# Altium integrated library Res-SMD_V2.IntLib: 2369 symbols (part 16 of 18)
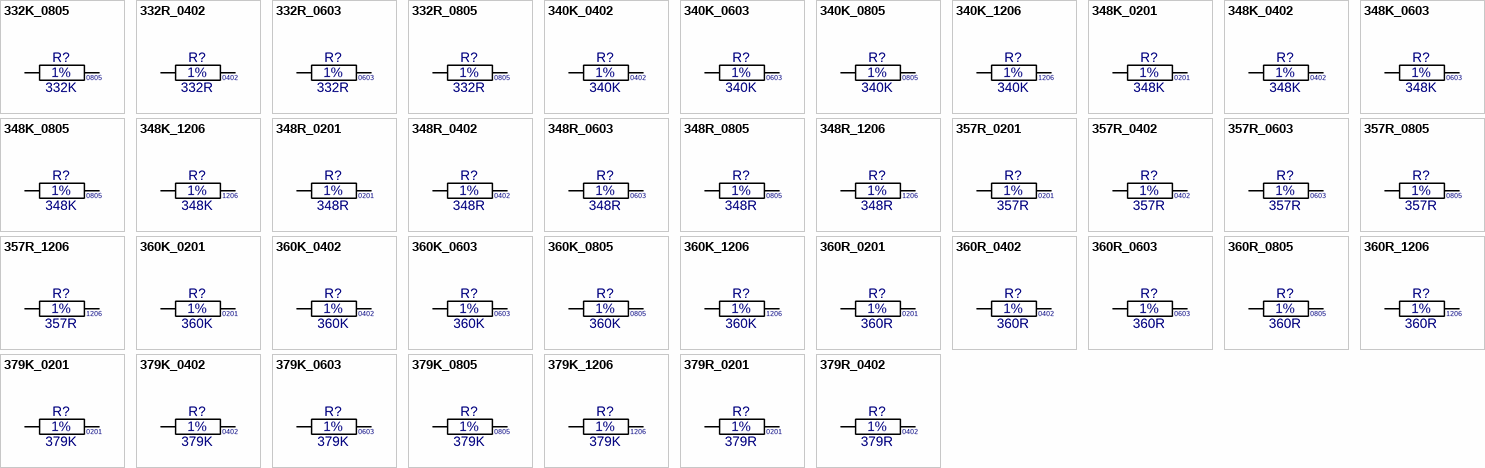
[diagram p74: symbols 332K_0805 to 379R_0402]

## 340K_0805
designator R?, comment value 340K  Tol: 1%  Text1: 0805  (hidden comment: 340K_R0805_1%)
Resistor Chip SMD; Manufacturer: Various; Part Number: 340K 0805 1%; Watt: 125mW; Package: RESC0805X65N; EDM-PN: *; Text2: *; Reutech PN: *; SAAB PN: *; DCE Part No: *
footprint RESC0805X65N (Chip Resistor, 0805, 2-Leads, Body 2.0x1.3mm, IPC Medium Density)
pins: 1, 2

## 340K_1206
designator R?, comment value 340K  Tol: 1%  Text1: 1206  (hidden comment: 340K_R1206_1%)
Resistor Chip SMD; Manufacturer: Various; Part Number: 340K 1206 1%; Watt: 250mW; Package: RESC1206X71N; EDM-PN: *; Text2: *; Reutech PN: *; SAAB PN: *; DCE Part No: *
footprint RESC1206X71N (Chip Resistor, 1206, 2-Leads, Body 3.2x1.6mm, IPC Medium Density)
pins: 1, 2

## 348K_0201
designator R?, comment value 348K  Tol: 1%  Text1: 0201  (hidden comment: 348K_R0201_1%)
Resistor Chip SMD; Manufacturer: Various; Part Number: 348K 0201 1%; Watt: 31mW; Package: RESC0201X33N; EDM-PN: *; Text2: *; Reutech PN: *; SAAB PN: *; DCE Part No: *
footprint RESC0201X33N (Chip Resistor, 0201, 2-Leads, Body 0.6x0.3mm, IPC Medium Density)
pins: 1, 2

## 348K_0402
designator R?, comment value 348K  Tol: 1%  Text1: 0402  (hidden comment: 348K_R0402_1%)
Resistor Chip SMD; Manufacturer: Various; Part Number: 348K 0402 1%; Watt: 63mW; Package: RESC0402X40N; EDM-PN: *; Text2: *; Reutech PN: *; SAAB PN: *; DCE Part No: *
footprint RESC0402X40N (Chip Resistor, 0402, 2-Leads, Body 1.1x0.5mm, IPC Medium Density)
pins: 1, 2

## 348K_0603
designator R?, comment value 348K  Tol: 1%  Text1: 0603  (hidden comment: 348K_R0603_1%)
Resistor Chip SMD; Manufacturer: Various; Part Number: 348K 0603 1%; Watt: 100mW; Package: RESC0603X60N; EDM-PN: *; Text2: *; Reutech PN: *; SAAB PN: *; DCE Part No: *
footprint RESC0603X60N (Chip Resistor, 0603, 2-Leads, Body 1.6x0.8mm, IPC Medium Density)
pins: 1, 2

## 348K_0805
designator R?, comment value 348K  Tol: 1%  Text1: 0805  (hidden comment: 348K_R0805_1%)
Resistor Chip SMD; Manufacturer: Various; Part Number: 348K 0805 1%; Watt: 125mW; Package: RESC0805X65N; EDM-PN: *; Text2: *; Reutech PN: *; SAAB PN: *; DCE Part No: *
footprint RESC0805X65N (Chip Resistor, 0805, 2-Leads, Body 2.0x1.3mm, IPC Medium Density)
pins: 1, 2

## 348K_1206
designator R?, comment value 348K  Tol: 1%  Text1: 1206  (hidden comment: 348K_R1206_1%)
Resistor Chip SMD; Manufacturer: Various; Part Number: 348K 1206 1%; Watt: 250mW; Package: RESC1206X71N; EDM-PN: *; Text2: *; Reutech PN: *; SAAB PN: *; DCE Part No: *
footprint RESC1206X71N (Chip Resistor, 1206, 2-Leads, Body 3.2x1.6mm, IPC Medium Density)
pins: 1, 2

## 348R_0201
designator R?, comment value 348R  Tol: 1%  Text1: 0201  (hidden comment: 348R_R0201_1%)
Resistor Chip SMD; Manufacturer: Various; Part Number: 348R 0201 1%; Watt: 31mW; Package: RESC0201X33N; EDM-PN: *; Text2: *; Reutech PN: *; SAAB PN: *; DCE Part No: *
footprint RESC0201X33N (Chip Resistor, 0201, 2-Leads, Body 0.6x0.3mm, IPC Medium Density)
pins: 1, 2

## 348R_0402
designator R?, comment value 348R  Tol: 1%  Text1: 0402  (hidden comment: 348R_R0402_1%)
Resistor Chip SMD; Manufacturer: Various; Part Number: 348R 0402 1%; Watt: 63mW; Package: RESC0402X40N; EDM-PN: *; Text2: *; Reutech PN: *; SAAB PN: *; DCE Part No: *
footprint RESC0402X40N (Chip Resistor, 0402, 2-Leads, Body 1.1x0.5mm, IPC Medium Density)
pins: 1, 2

## 348R_0603
designator R?, comment value 348R  Tol: 1%  Text1: 0603  (hidden comment: 348R_R0603_1%)
Resistor Chip SMD; Manufacturer: Various; Part Number: 348R 0603 1%; Watt: 100mW; Package: RESC0603X60N; EDM-PN: *; Text2: *; Reutech PN: *; SAAB PN: *; DCE Part No: *
footprint RESC0603X60N (Chip Resistor, 0603, 2-Leads, Body 1.6x0.8mm, IPC Medium Density)
pins: 1, 2

## 348R_0805
designator R?, comment value 348R  Tol: 1%  Text1: 0805  (hidden comment: 348R_R0805_1%)
Resistor Chip SMD; Manufacturer: Various; Part Number: 348R 0805 1%; Watt: 125mW; Package: RESC0805X65N; EDM-PN: *; Text2: *; Reutech PN: *; SAAB PN: *; DCE Part No: *
footprint RESC0805X65N (Chip Resistor, 0805, 2-Leads, Body 2.0x1.3mm, IPC Medium Density)
pins: 1, 2

## 348R_1206
designator R?, comment value 348R  Tol: 1%  Text1: 1206  (hidden comment: 348R_R1206_1%)
Resistor Chip SMD; Manufacturer: Various; Part Number: 348R 1206 1%; Watt: 250mW; Package: RESC1206X71N; EDM-PN: *; Text2: *; Reutech PN: *; SAAB PN: *; DCE Part No: *
footprint RESC1206X71N (Chip Resistor, 1206, 2-Leads, Body 3.2x1.6mm, IPC Medium Density)
pins: 1, 2

## 357R_0201
designator R?, comment value 357R  Tol: 1%  Text1: 0201  (hidden comment: 357R_R0201_1%)
Resistor Chip SMD; Manufacturer: Various; Part Number: 357R 0201 1%; Watt: 31mW; Package: RESC0201X33N; EDM-PN: *; Text2: *; Reutech PN: *; SAAB PN: *; DCE Part No: *
footprint RESC0201X33N (Chip Resistor, 0201, 2-Leads, Body 0.6x0.3mm, IPC Medium Density)
pins: 1, 2

## 357R_0402
designator R?, comment value 357R  Tol: 1%  Text1: 0402  (hidden comment: 357R_R0402_1%)
Resistor Chip SMD; Manufacturer: Various; Part Number: 357R 0402 1%; Watt: 63mW; Package: RESC0402X40N; EDM-PN: *; Text2: *; Reutech PN: *; SAAB PN: *; DCE Part No: *
footprint RESC0402X40N (Chip Resistor, 0402, 2-Leads, Body 1.1x0.5mm, IPC Medium Density)
pins: 1, 2

## 357R_0603
designator R?, comment value 357R  Tol: 1%  Text1: 0603  (hidden comment: 357R_R0603_1%)
Resistor Chip SMD; Manufacturer: Various; Part Number: 357R 0603 1%; Watt: 100mW; Package: RESC0603X60N; EDM-PN: *; Text2: *; Reutech PN: *; SAAB PN: *; DCE Part No: *
footprint RESC0603X60N (Chip Resistor, 0603, 2-Leads, Body 1.6x0.8mm, IPC Medium Density)
pins: 1, 2

## 357R_0805
designator R?, comment value 357R  Tol: 1%  Text1: 0805  (hidden comment: 357R_R0805_1%)
Resistor Chip SMD; Manufacturer: Various; Part Number: 357R 0805 1%; Watt: 125mW; Package: RESC0805X65N; EDM-PN: *; Text2: *; Reutech PN: *; SAAB PN: *; DCE Part No: *
footprint RESC0805X65N (Chip Resistor, 0805, 2-Leads, Body 2.0x1.3mm, IPC Medium Density)
pins: 1, 2

## 357R_1206
designator R?, comment value 357R  Tol: 1%  Text1: 1206  (hidden comment: 357R_R1206_1%)
Resistor Chip SMD; Manufacturer: Various; Part Number: 357R 1206 1%; Watt: 250mW; Package: RESC1206X71N; EDM-PN: *; Text2: *; Reutech PN: *; SAAB PN: *; DCE Part No: *
footprint RESC1206X71N (Chip Resistor, 1206, 2-Leads, Body 3.2x1.6mm, IPC Medium Density)
pins: 1, 2

## 360K_0201
designator R?, comment value 360K  Tol: 1%  Text1: 0201  (hidden comment: 360K_R0201_1%)
Resistor Chip SMD; Manufacturer: Various; Part Number: 360K 0201 1%; Watt: 31mW; Package: RESC0201X33N; EDM-PN: *; Text2: *; Reutech PN: *; SAAB PN: *; DCE Part No: *
footprint RESC0201X33N (Chip Resistor, 0201, 2-Leads, Body 0.6x0.3mm, IPC Medium Density)
pins: 1, 2

## 360K_0402
designator R?, comment value 360K  Tol: 1%  Text1: 0402  (hidden comment: 360K_R0402_1%)
Resistor Chip SMD; Manufacturer: Various; Part Number: 360K 0402 1%; Watt: 63mW; Package: RESC0402X40N; EDM-PN: *; Text2: *; Reutech PN: *; SAAB PN: *; DCE Part No: *
footprint RESC0402X40N (Chip Resistor, 0402, 2-Leads, Body 1.1x0.5mm, IPC Medium Density)
pins: 1, 2

## 360K_0603
designator R?, comment value 360K  Tol: 1%  Text1: 0603  (hidden comment: 360K_R0603_1%)
Resistor Chip SMD; Manufacturer: Various; Part Number: 360K 0603 1%; Watt: 100mW; Package: RESC0603X60N; EDM-PN: *; Text2: *; Reutech PN: *; SAAB PN: *; DCE Part No: *
footprint RESC0603X60N (Chip Resistor, 0603, 2-Leads, Body 1.6x0.8mm, IPC Medium Density)
pins: 1, 2

## 360K_0805
designator R?, comment value 360K  Tol: 1%  Text1: 0805  (hidden comment: 360K_R0805_1%)
Resistor Chip SMD; Manufacturer: Various; Part Number: 360K 0805 1%; Watt: 125mW; Package: RESC0805X65N; EDM-PN: *; Text2: *; Reutech PN: *; SAAB PN: *; DCE Part No: *
footprint RESC0805X65N (Chip Resistor, 0805, 2-Leads, Body 2.0x1.3mm, IPC Medium Density)
pins: 1, 2

## 360K_1206
designator R?, comment value 360K  Tol: 1%  Text1: 1206  (hidden comment: 360K_R1206_1%)
Resistor Chip SMD; Manufacturer: Various; Part Number: 360K 1206 1%; Watt: 250mW; Package: RESC1206X71N; EDM-PN: *; Text2: *; Reutech PN: *; SAAB PN: *; DCE Part No: *
footprint RESC1206X71N (Chip Resistor, 1206, 2-Leads, Body 3.2x1.6mm, IPC Medium Density)
pins: 1, 2

## 360R_0201
designator R?, comment value 360R  Tol: 1%  Text1: 0201  (hidden comment: 360R_R0201_1%)
Resistor Chip SMD; Manufacturer: Various; Part Number: 360R 0201 1%; Watt: 31mW; Package: RESC0201X33N; EDM-PN: *; Text2: *; Reutech PN: *; SAAB PN: *; DCE Part No: *
footprint RESC0201X33N (Chip Resistor, 0201, 2-Leads, Body 0.6x0.3mm, IPC Medium Density)
pins: 1, 2

## 360R_0402
designator R?, comment value 360R  Tol: 1%  Text1: 0402  (hidden comment: 360R_R0402_1%)
Resistor Chip SMD; Manufacturer: Various; Part Number: 360R 0402 1%; Watt: 63mW; Package: RESC0402X40N; EDM-PN: *; Text2: *; Reutech PN: *; SAAB PN: *; DCE Part No: *
footprint RESC0402X40N (Chip Resistor, 0402, 2-Leads, Body 1.1x0.5mm, IPC Medium Density)
pins: 1, 2

## 360R_0603
designator R?, comment value 360R  Tol: 1%  Text1: 0603  (hidden comment: 360R_R0603_1%)
Resistor Chip SMD; Manufacturer: Various; Part Number: 360R 0603 1%; Watt: 100mW; Package: RESC0603X60N; EDM-PN: *; Text2: *; Reutech PN: 5905-93-3600; SAAB PN: *; DCE Part No: *
footprint RESC0603X60N (Chip Resistor, 0603, 2-Leads, Body 1.6x0.8mm, IPC Medium Density)
pins: 1, 2

## 360R_0805
designator R?, comment value 360R  Tol: 1%  Text1: 0805  (hidden comment: 360R_R0805_1%)
Resistor Chip SMD; Manufacturer: Various; Part Number: 360R 0805 1%; Watt: 125mW; EDM-PN: RES52; Package: RESC0805X65N; Text2: *; Reutech PN: *; SAAB PN: *; DCE Part No: *
footprint RESC0805X65N (Chip Resistor, 0805, 2-Leads, Body 2.0x1.3mm, IPC Medium Density)
pins: 1, 2

## 360R_1206
designator R?, comment value 360R  Tol: 1%  Text1: 1206  (hidden comment: 360R_R1206_1%)
Resistor Chip SMD; Manufacturer: Various; Part Number: 360R 1206 1%; Watt: 250mW; Package: RESC1206X71N; EDM-PN: *; Text2: *; Reutech PN: *; SAAB PN: *; DCE Part No: *
footprint RESC1206X71N (Chip Resistor, 1206, 2-Leads, Body 3.2x1.6mm, IPC Medium Density)
pins: 1, 2

## 379K_0201
designator R?, comment value 379K  Tol: 1%  Text1: 0201  (hidden comment: 379K_R0201_1%)
Resistor Chip SMD; Manufacturer: Various; Part Number: 379K 0201 1%; Watt: 31mW; Package: RESC0201X33N; EDM-PN: *; Text2: *; Reutech PN: *; SAAB PN: *; DCE Part No: *
footprint RESC0201X33N (Chip Resistor, 0201, 2-Leads, Body 0.6x0.3mm, IPC Medium Density)
pins: 1, 2

## 379K_0402
designator R?, comment value 379K  Tol: 1%  Text1: 0402  (hidden comment: 379K_R0402_1%)
Resistor Chip SMD; Manufacturer: Various; Part Number: 379K 0402 1%; Watt: 63mW; Package: RESC0402X40N; EDM-PN: *; Text2: *; Reutech PN: *; SAAB PN: *; DCE Part No: *
footprint RESC0402X40N (Chip Resistor, 0402, 2-Leads, Body 1.1x0.5mm, IPC Medium Density)
pins: 1, 2

## 379K_0603
designator R?, comment value 379K  Tol: 1%  Text1: 0603  (hidden comment: 379K_R0603_1%)
Resistor Chip SMD; Manufacturer: Various; Part Number: 379K 0603 1%; Watt: 100mW; Package: RESC0603X60N; EDM-PN: *; Text2: *; Reutech PN: 5905-93-3791; SAAB PN: *; DCE Part No: *
footprint RESC0603X60N (Chip Resistor, 0603, 2-Leads, Body 1.6x0.8mm, IPC Medium Density)
pins: 1, 2

## 379K_0805
designator R?, comment value 379K  Tol: 1%  Text1: 0805  (hidden comment: 379K_R0805_1%)
Resistor Chip SMD; Manufacturer: Various; Part Number: 379K 0805 1%; Watt: 125mW; Package: RESC0805X65N; EDM-PN: *; Text2: *; Reutech PN: *; SAAB PN: *; DCE Part No: *
footprint RESC0805X65N (Chip Resistor, 0805, 2-Leads, Body 2.0x1.3mm, IPC Medium Density)
pins: 1, 2

## 379K_1206
designator R?, comment value 379K  Tol: 1%  Text1: 1206  (hidden comment: 379K_R1206_1%)
Resistor Chip SMD; Manufacturer: Various; Part Number: 379K 1206 1%; Watt: 250mW; Package: RESC1206X71N; EDM-PN: *; Text2: *; Reutech PN: *; SAAB PN: *; DCE Part No: *
footprint RESC1206X71N (Chip Resistor, 1206, 2-Leads, Body 3.2x1.6mm, IPC Medium Density)
pins: 1, 2

## 379R_0201
designator R?, comment value 379R  Tol: 1%  Text1: 0201  (hidden comment: 379R_R0201_1%)
Resistor Chip SMD; Manufacturer: Various; Part Number: 379R 0201 1%; Watt: 31mW; Package: RESC0201X33N; EDM-PN: *; Text2: *; Reutech PN: *; SAAB PN: *; DCE Part No: *
footprint RESC0201X33N (Chip Resistor, 0201, 2-Leads, Body 0.6x0.3mm, IPC Medium Density)
pins: 1, 2

## 379R_0402
designator R?, comment value 379R  Tol: 1%  Text1: 0402  (hidden comment: 379R_R0402_1%)
Resistor Chip SMD; Manufacturer: Various; Part Number: 379R 0402 1%; Watt: 63mW; Package: RESC0402X40N; EDM-PN: *; Text2: *; Reutech PN: *; SAAB PN: *; DCE Part No: *
footprint RESC0402X40N (Chip Resistor, 0402, 2-Leads, Body 1.1x0.5mm, IPC Medium Density)
pins: 1, 2

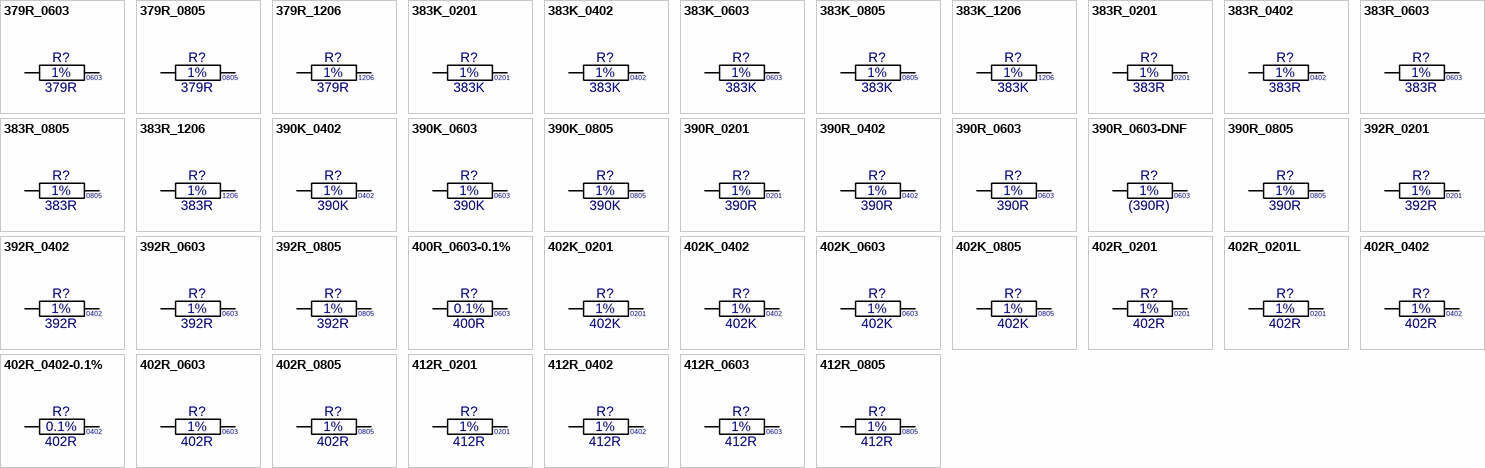
[diagram p51: symbols 379R_0603 to 412R_0805]

## 379R_0603
designator R?, comment value 379R  Tol: 1%  Text1: 0603  (hidden comment: 379R_R0603_1%)
Resistor Chip SMD; Manufacturer: Various; Part Number: 379R 0603 1%; Watt: 100mW; Package: RESC0603X60N; EDM-PN: *; Text2: *; Reutech PN: 5905-93-3790; SAAB PN: *; DCE Part No: *
footprint RESC0603X60N (Chip Resistor, 0603, 2-Leads, Body 1.6x0.8mm, IPC Medium Density)
pins: 1, 2

## 379R_0805
designator R?, comment value 379R  Tol: 1%  Text1: 0805  (hidden comment: 379R_R0805_1%)
Resistor Chip SMD; Manufacturer: Various; Part Number: 379R 0805 1%; Watt: 125mW; Package: RESC0805X65N; EDM-PN: *; Text2: *; Reutech PN: *; SAAB PN: *; DCE Part No: *
footprint RESC0805X65N (Chip Resistor, 0805, 2-Leads, Body 2.0x1.3mm, IPC Medium Density)
pins: 1, 2

## 379R_1206
designator R?, comment value 379R  Tol: 1%  Text1: 1206  (hidden comment: 379R_R1206_1%)
Resistor Chip SMD; Manufacturer: Various; Part Number: 379R 1206 1%; Watt: 250mW; Package: RESC1206X71N; EDM-PN: *; Text2: *; Reutech PN: *; SAAB PN: *; DCE Part No: *
footprint RESC1206X71N (Chip Resistor, 1206, 2-Leads, Body 3.2x1.6mm, IPC Medium Density)
pins: 1, 2

## 383K_0201
designator R?, comment value 383K  Tol: 1%  Text1: 0201  (hidden comment: 383K_R0201_1%)
Resistor Chip SMD; Manufacturer: Various; Part Number: 383K 0201 1%; Watt: 31mW; Package: RESC0201X33N; EDM-PN: *; Text2: *; Reutech PN: *; SAAB PN: *; DCE Part No: *
footprint RESC0201X33N (Chip Resistor, 0201, 2-Leads, Body 0.6x0.3mm, IPC Medium Density)
pins: 1, 2

## 383K_0402
designator R?, comment value 383K  Tol: 1%  Text1: 0402  (hidden comment: 383K_R0402_1%)
Resistor Chip SMD; Manufacturer: Various; Part Number: 383K 0402 1%; Watt: 63mW; Package: RESC0402X40N; EDM-PN: *; Text2: *; Reutech PN: *; SAAB PN: *; DCE Part No: *
footprint RESC0402X40N (Chip Resistor, 0402, 2-Leads, Body 1.1x0.5mm, IPC Medium Density)
pins: 1, 2

## 383K_0603
designator R?, comment value 383K  Tol: 1%  Text1: 0603  (hidden comment: 383K_R0603_1%)
Resistor Chip SMD; Manufacturer: Various; Part Number: 383K 0603 1%; Watt: 100mW; Package: RESC0603X60N; EDM-PN: *; Text2: *; Reutech PN: 5905-93-3831; SAAB PN: *; DCE Part No: *
footprint RESC0603X60N (Chip Resistor, 0603, 2-Leads, Body 1.6x0.8mm, IPC Medium Density)
pins: 1, 2

## 383K_0805
designator R?, comment value 383K  Tol: 1%  Text1: 0805  (hidden comment: 383K_R0805_1%)
Resistor Chip SMD; Manufacturer: Various; Part Number: 383K 0805 1%; Watt: 125mW; Package: RESC0805X65N; EDM-PN: *; Text2: *; Reutech PN: *; SAAB PN: *; DCE Part No: *
footprint RESC0805X65N (Chip Resistor, 0805, 2-Leads, Body 2.0x1.3mm, IPC Medium Density)
pins: 1, 2

## 383K_1206
designator R?, comment value 383K  Tol: 1%  Text1: 1206  (hidden comment: 383K_R1206_1%)
Resistor Chip SMD; Manufacturer: Various; Part Number: 383K 1206 1%; Watt: 250mW; Package: RESC1206X71N; EDM-PN: *; Text2: *; Reutech PN: *; SAAB PN: *; DCE Part No: *
footprint RESC1206X71N (Chip Resistor, 1206, 2-Leads, Body 3.2x1.6mm, IPC Medium Density)
pins: 1, 2

## 383R_0201
designator R?, comment value 383R  Tol: 1%  Text1: 0201  (hidden comment: 383R_R0201_1%)
Resistor Chip SMD; Manufacturer: Various; Part Number: 383R 0201 1%; Watt: 31mW; Package: RESC0201X33N; EDM-PN: *; Text2: *; Reutech PN: *; SAAB PN: *; DCE Part No: *
footprint RESC0201X33N (Chip Resistor, 0201, 2-Leads, Body 0.6x0.3mm, IPC Medium Density)
pins: 1, 2

## 383R_0402
designator R?, comment value 383R  Tol: 1%  Text1: 0402  (hidden comment: 383R_R0402_1%)
Resistor Chip SMD; Manufacturer: Various; Part Number: 383R 0402 1%; Watt: 63mW; Package: RESC0402X40N; EDM-PN: *; Text2: *; Reutech PN: *; SAAB PN: *; DCE Part No: *
footprint RESC0402X40N (Chip Resistor, 0402, 2-Leads, Body 1.1x0.5mm, IPC Medium Density)
pins: 1, 2

## 383R_0603
designator R?, comment value 383R  Tol: 1%  Text1: 0603  (hidden comment: 383R_R0603_1%)
Resistor Chip SMD; Manufacturer: Various; Part Number: 383R 0603 1%; Watt: 100mW; Package: RESC0603X60N; EDM-PN: *; Text2: *; Reutech PN: 5905-93-3830; SAAB PN: *; DCE Part No: *
footprint RESC0603X60N (Chip Resistor, 0603, 2-Leads, Body 1.6x0.8mm, IPC Medium Density)
pins: 1, 2

## 383R_0805
designator R?, comment value 383R  Tol: 1%  Text1: 0805  (hidden comment: 383R_R0805_1%)
Resistor Chip SMD; Manufacturer: Various; Part Number: 383R 0805 1%; Watt: 125mW; Package: RESC0805X65N; EDM-PN: *; Text2: *; Reutech PN: *; SAAB PN: *; DCE Part No: *
footprint RESC0805X65N (Chip Resistor, 0805, 2-Leads, Body 2.0x1.3mm, IPC Medium Density)
pins: 1, 2

## 383R_1206
designator R?, comment value 383R  Tol: 1%  Text1: 1206  (hidden comment: 383R_R1206_1%)
Resistor Chip SMD; Manufacturer: Various; Part Number: 383R 1206 1%; Watt: 250mW; Package: RESC1206X71N; EDM-PN: *; Text2: *; Reutech PN: *; SAAB PN: *; DCE Part No: *
footprint RESC1206X71N (Chip Resistor, 1206, 2-Leads, Body 3.2x1.6mm, IPC Medium Density)
pins: 1, 2

## 390K_0402
designator R?, comment value 390K  Tol: 1%  Text1: 0402  (hidden comment: 390K_R0402_1%)
Resistor Chip SMD; Manufacturer: Various; Part Number: 390K 0402 1%; Watt: 63mW; Package: RESC0402X40N; EDM-PN: *; Text2: *; Reutech PN: *; SAAB PN: *; DCE Part No: *
footprint RESC0402X40N (Chip Resistor, 0402, 2-Leads, Body 1.1x0.5mm, IPC Medium Density)
pins: 1, 2

## 390K_0603
designator R?, comment value 390K  Tol: 1%  Text1: 0603  (hidden comment: 390K_R0603_1%)
Resistor Chip SMD; Manufacturer: Various; Part Number: 390K 0603 1%; Watt: 100mW; Package: RESC0603X60N; EDM-PN: *; Text2: *; Reutech PN: *; SAAB PN: *; DCE Part No: *
footprint RESC0603X60N (Chip Resistor, 0603, 2-Leads, Body 1.6x0.8mm, IPC Medium Density)
pins: 1, 2

## 390K_0805
designator R?, comment value 390K  Tol: 1%  Text1: 0805  (hidden comment: 390K_R0805_1%)
Resistor Chip SMD; Manufacturer: Various; Part Number: 390K 0805 1%; Watt: 125mW; Package: RESC0805X65N; EDM-PN: *; Text2: *; Reutech PN: *; SAAB PN: *; DCE Part No: *
footprint RESC0805X65N (Chip Resistor, 0805, 2-Leads, Body 2.0x1.3mm, IPC Medium Density)
pins: 1, 2

## 390R_0201
designator R?, comment value 390R  Tol: 1%  Text1: 0201  (hidden comment: 390R_R0201_1%)
Resistor Chip SMD; Manufacturer: Various; Part Number: 390R 0201 1%; Watt: 31mW; Package: RESC0201X33N; EDM-PN: *; Text2: *; Reutech PN: *; SAAB PN: *; DCE Part No: *
footprint RESC0201X33N (Chip Resistor, 0201, 2-Leads, Body 0.6x0.3mm, IPC Medium Density)
pins: 1, 2

## 390R_0402
designator R?, comment value 390R  Tol: 1%  Text1: 0402  (hidden comment: 390R_R0402_1%)
Resistor Chip SMD; Manufacturer: Various; Part Number: 390R 0402 1%; Watt: 63mW; Package: RESC0402X40N; EDM-PN: *; Text2: *; Reutech PN: *; SAAB PN: *; DCE Part No: *
footprint RESC0402X40N (Chip Resistor, 0402, 2-Leads, Body 1.1x0.5mm, IPC Medium Density)
pins: 1, 2

## 390R_0603
designator R?, comment value 390R  Tol: 1%  Text1: 0603  (hidden comment: 390R_R0603_1%)
Resistor Chip SMD; Manufacturer: Various; Part Number: 390R 0603 1%; Watt: 100mW; Package: RESC0603X60N; EDM-PN: *; Text2: *; Reutech PN: 5905-93-3900; SAAB PN: *; DCE Part No: *
footprint RESC0603X60N (Chip Resistor, 0603, 2-Leads, Body 1.6x0.8mm, IPC Medium Density)
pins: 1, 2

## 390R_0603-DNF
designator R?, comment value (390R)  Tol: 1%  Text1: 0603  (hidden comment: 390R_R0603_1%)
Resistor Chip SMD - Do not Fit; Manufacturer: Various; Part Number: DNF - 390R 0603 1%; Watt: 100mW; Package: RESC0603X60N; EDM-PN: *; Text2: *; Reutech PN: 5905-93-3900; SAAB PN: *; DCE Part No: *
footprint RESC0603X60N (Chip Resistor, 0603, 2-Leads, Body 1.6x0.8mm, IPC Medium Density)
pins: 1, 2

## 390R_0805
designator R?, comment value 390R  Tol: 1%  Text1: 0805  (hidden comment: 390R_R0805_1%)
Resistor Chip SMD; Manufacturer: Various; Part Number: 390R 0805 1%; Watt: 125mW; Package: RESC0805X65N; EDM-PN: *; Text2: *; Reutech PN: *; SAAB PN: *; DCE Part No: *
footprint RESC0805X65N (Chip Resistor, 0805, 2-Leads, Body 2.0x1.3mm, IPC Medium Density)
pins: 1, 2

## 392R_0201
designator R?, comment value 392R  Tol: 1%  Text1: 0201  (hidden comment: 392R_R0201_1%)
Resistor Chip SMD; Manufacturer: Various; Part Number: 392R 0201 1%; Watt: 31mW; Package: RESC0201X33N; EDM-PN: *; Text2: *; Reutech PN: *; SAAB PN: *; DCE Part No: *
footprint RESC0201X33N (Chip Resistor, 0201, 2-Leads, Body 0.6x0.3mm, IPC Medium Density)
pins: 1, 2

## 392R_0402
designator R?, comment value 392R  Tol: 1%  Text1: 0402  (hidden comment: 392R_R0402_1%)
Resistor Chip SMD; Manufacturer: Various; Part Number: 392R 0402 1%; Watt: 63mW; Package: RESC0402X40N; EDM-PN: *; Text2: *; Reutech PN: *; SAAB PN: *; DCE Part No: *
footprint RESC0402X40N (Chip Resistor, 0402, 2-Leads, Body 1.1x0.5mm, IPC Medium Density)
pins: 1, 2

## 392R_0603
designator R?, comment value 392R  Tol: 1%  Text1: 0603  (hidden comment: 392R_R0603_1%)
Resistor Chip SMD; Manufacturer: Various; Part Number: 392R 0603 1%; Watt: 100mW; Package: RESC0603X60N; EDM-PN: *; Text2: *; Reutech PN: *; SAAB PN: *; DCE Part No: *
footprint RESC0603X60N (Chip Resistor, 0603, 2-Leads, Body 1.6x0.8mm, IPC Medium Density)
pins: 1, 2

## 392R_0805
designator R?, comment value 392R  Tol: 1%  Text1: 0805  (hidden comment: 392R_R0805_1%)
Resistor Chip SMD; Manufacturer: Various; Part Number: 392R 0805 1%; Watt: 125mW; Package: RESC0805X65N; EDM-PN: *; Text2: *; Reutech PN: *; SAAB PN: *; DCE Part No: *
footprint RESC0805X65N (Chip Resistor, 0805, 2-Leads, Body 2.0x1.3mm, IPC Medium Density)
pins: 1, 2

## 400R_0603-0.1%
designator R?, comment value 400R  Tol: 0.1%  Text1: 0603  (hidden comment: 400R_R0603_0.1%)
Resistor Chip SMD; Manufacturer: Various; Part Number: 400R 0603 0.1%; Watt: 150mW; Package: RESC0603X60N; EDM-PN: *; Text2: *; Reutech PN: *; SAAB PN: *; DCE Part No: *
footprint RESC0603X60N (Chip Resistor, 0603, 2-Leads, Body 1.6x0.8mm, IPC Medium Density)
pins: 1, 2

## 402K_0201
designator R?, comment value 402K  Tol: 1%  Text1: 0201  (hidden comment: 402K_R0201_1%)
Resistor Chip SMD; Manufacturer: Various; Part Number: 402K 0201 1%; Watt: 31mW; Package: RESC0201X33N; EDM-PN: *; Text2: *; Reutech PN: *; SAAB PN: *; DCE Part No: *
footprint RESC0201X33N (Chip Resistor, 0201, 2-Leads, Body 0.6x0.3mm, IPC Medium Density)
pins: 1, 2

## 402K_0402
designator R?, comment value 402K  Tol: 1%  Text1: 0402  (hidden comment: 402K_R0402_1%)
Resistor Chip SMD; Manufacturer: Various; Part Number: 402K 0402 1%; Watt: 63mW; Package: RESC0402X40N; EDM-PN: *; Text2: *; Reutech PN: *; SAAB PN: *; DCE Part No: *
footprint RESC0402X40N (Chip Resistor, 0402, 2-Leads, Body 1.1x0.5mm, IPC Medium Density)
pins: 1, 2

## 402K_0603
designator R?, comment value 402K  Tol: 1%  Text1: 0603  (hidden comment: 402K_R0603_1%)
Resistor Chip SMD; Manufacturer: Various; Part Number: 402K 0603 1%; Watt: 100mW; EDM-PN: RES1511; Package: RESC0603X60N; Text2: *; Reutech PN: *; SAAB PN: *; DCE Part No: *
footprint RESC0603X60N (Chip Resistor, 0603, 2-Leads, Body 1.6x0.8mm, IPC Medium Density)
pins: 1, 2

## 402K_0805
designator R?, comment value 402K  Tol: 1%  Text1: 0805  (hidden comment: 402K_R0805_1%)
Resistor Chip SMD; Manufacturer: Various; Part Number: 402K 0805 1%; Watt: 125mW; Package: RESC0805X65N; EDM-PN: *; Text2: *; Reutech PN: *; SAAB PN: *; DCE Part No: *
footprint RESC0805X65N (Chip Resistor, 0805, 2-Leads, Body 2.0x1.3mm, IPC Medium Density)
pins: 1, 2

## 402R_0201
designator R?, comment value 402R  Tol: 1%  Text1: 0201  (hidden comment: 402R_R0201_1%)
Resistor Chip SMD; Manufacturer: Various; Part Number: 402R 0201 1%; Watt: 31mW; Package: RESC0201X33N; EDM-PN: *; Text2: *; Reutech PN: *; SAAB PN: *; DCE Part No: *
footprint RESC0201X33N (Chip Resistor, 0201, 2-Leads, Body 0.6x0.3mm, IPC Medium Density)
pins: 1, 2

## 402R_0201L
designator R?, comment value 402R  Tol: 1%  Text1: 0201  (hidden comment: 402R_R0201_1%)
Resistor Chip SMD; Manufacturer: Various; Part Number: 402R 0201 1%; Watt: 31mW; Package: RESC0201X33L; EDM-PN: *; Text2: *; Reutech PN: *; SAAB PN: *; DCE Part No: *
footprint RESC0201X33L (Chip Resistor, 0201, 2-Leads, Body 0.6x0.3mm, IPC Least Density)
pins: 1, 2

## 402R_0402
designator R?, comment value 402R  Tol: 1%  Text1: 0402  (hidden comment: 402R_R0402_1%)
Resistor Chip SMD; Manufacturer: Various; Part Number: 402R 0402 1%; Watt: 63mW; Package: RESC0402X40N; EDM-PN: *; Text2: *; Reutech PN: *; SAAB PN: *; DCE Part No: *
footprint RESC0402X40N (Chip Resistor, 0402, 2-Leads, Body 1.1x0.5mm, IPC Medium Density)
pins: 1, 2

## 402R_0402-0.1%
designator R?, comment value 402R  Tol: 0.1%  Text1: 0402  (hidden comment: 402R_R0402_0.1%)
Resistor Chip SMD; Manufacturer: Various; Part Number: 402R 0402 0.1%; Watt: 63mW; Package: RESC0402X40N; EDM-PN: *; Text2: *; Reutech PN: *; SAAB PN: *; DCE Part No: *
footprint RESC0402X40N (Chip Resistor, 0402, 2-Leads, Body 1.1x0.5mm, IPC Medium Density)
pins: 1, 2

## 402R_0603
designator R?, comment value 402R  Tol: 1%  Text1: 0603  (hidden comment: 402R_R0603_1%)
Resistor Chip SMD; Manufacturer: Various; Part Number: 402R 0603 1%; Watt: 100mW; Package: RESC0603X60N; EDM-PN: *; Text2: *; Reutech PN: *; SAAB PN: *; DCE Part No: *
footprint RESC0603X60N (Chip Resistor, 0603, 2-Leads, Body 1.6x0.8mm, IPC Medium Density)
pins: 1, 2

## 402R_0805
designator R?, comment value 402R  Tol: 1%  Text1: 0805  (hidden comment: 402R_R0805_1%)
Resistor Chip SMD; Manufacturer: Various; Part Number: 402R 0805 1%; Watt: 125mW; EDM-PN: RES177; Package: RESC0805X65N; Text2: *; Reutech PN: *; SAAB PN: *; DCE Part No: *
footprint RESC0805X65N (Chip Resistor, 0805, 2-Leads, Body 2.0x1.3mm, IPC Medium Density)
pins: 1, 2

## 412R_0201
designator R?, comment value 412R  Tol: 1%  Text1: 0201  (hidden comment: 412R_R0201_1%)
Resistor Chip SMD; Manufacturer: Various; Part Number: 412R 0201 1%; Watt: 31mW; Package: RESC0201X33N; EDM-PN: *; Text2: *; Reutech PN: *; SAAB PN: *; DCE Part No: *
footprint RESC0201X33N (Chip Resistor, 0201, 2-Leads, Body 0.6x0.3mm, IPC Medium Density)
pins: 1, 2

## 412R_0402
designator R?, comment value 412R  Tol: 1%  Text1: 0402  (hidden comment: 412R_R0402_1%)
Resistor Chip SMD; Manufacturer: Various; Part Number: 412R 0402 1%; Watt: 63mW; Package: RESC0402X40N; EDM-PN: *; Text2: *; Reutech PN: *; SAAB PN: *; DCE Part No: *
footprint RESC0402X40N (Chip Resistor, 0402, 2-Leads, Body 1.1x0.5mm, IPC Medium Density)
pins: 1, 2

## 412R_0603
designator R?, comment value 412R  Tol: 1%  Text1: 0603  (hidden comment: 412R_R0603_1%)
Resistor Chip SMD; Manufacturer: Various; Part Number: 412R 0603 1%; Watt: 100mW; Package: RESC0603X60N; EDM-PN: *; Text2: *; Reutech PN: *; SAAB PN: *; DCE Part No: *
footprint RESC0603X60N (Chip Resistor, 0603, 2-Leads, Body 1.6x0.8mm, IPC Medium Density)
pins: 1, 2

## 412R_0805
designator R?, comment value 412R  Tol: 1%  Text1: 0805  (hidden comment: 412R_R0805_1%)
Resistor Chip SMD; Manufacturer: Various; Part Number: 412R 0805 1%; Watt: 125mW; Package: RESC0805X65N; EDM-PN: *; Text2: *; Reutech PN: *; SAAB PN: *; DCE Part No: *
footprint RESC0805X65N (Chip Resistor, 0805, 2-Leads, Body 2.0x1.3mm, IPC Medium Density)
pins: 1, 2

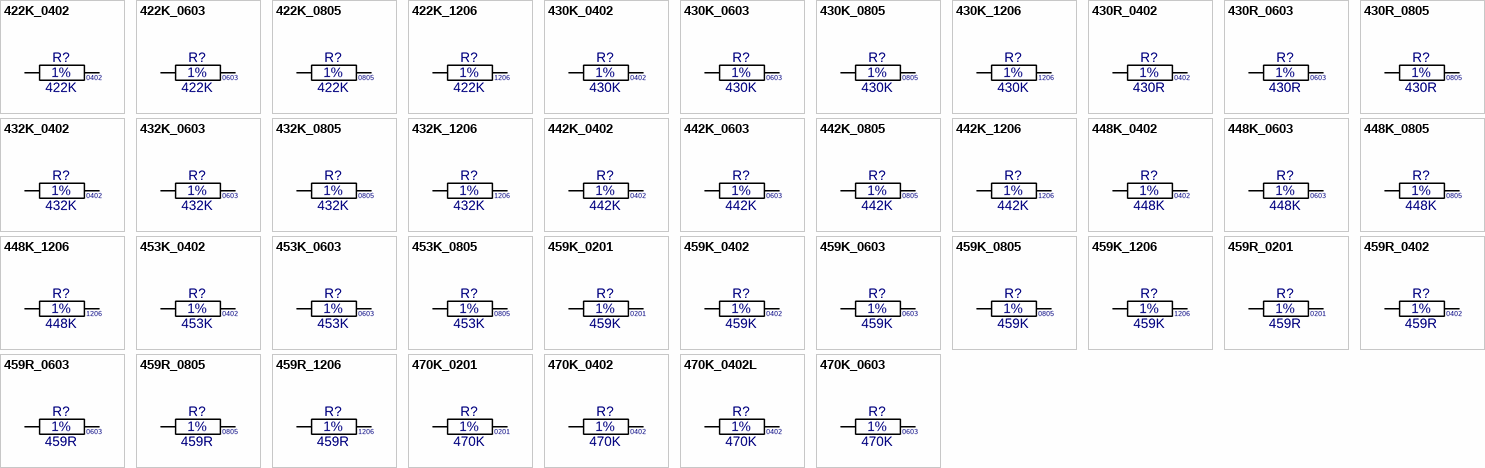
[diagram p52: symbols 422K_0402 to 470K_0603]

## 422K_0402
designator R?, comment value 422K  Tol: 1%  Text1: 0402  (hidden comment: 422K_R0402_1%)
Resistor Chip SMD; Manufacturer: Various; Part Number: 422K 0402 1%; Watt: 63mW; Package: RESC0402X40N; EDM-PN: *; Text2: *; Reutech PN: *; SAAB PN: *; DCE Part No: *
footprint RESC0402X40N (Chip Resistor, 0402, 2-Leads, Body 1.1x0.5mm, IPC Medium Density)
pins: 1, 2

## 422K_0603
designator R?, comment value 422K  Tol: 1%  Text1: 0603  (hidden comment: 422K_R0603_1%)
Resistor Chip SMD; Manufacturer: Various; Part Number: 422K 0603 1%; Watt: 100mW; Package: RESC0603X60N; EDM-PN: *; Text2: *; Reutech PN: *; SAAB PN: *; DCE Part No: *
footprint RESC0603X60N (Chip Resistor, 0603, 2-Leads, Body 1.6x0.8mm, IPC Medium Density)
pins: 1, 2

## 422K_0805
designator R?, comment value 422K  Tol: 1%  Text1: 0805  (hidden comment: 422K_R0805_1%)
Resistor Chip SMD; Manufacturer: Various; Part Number: 422K 0805 1%; Watt: 125mW; Package: RESC0805X65N; EDM-PN: *; Text2: *; Reutech PN: *; SAAB PN: *; DCE Part No: *
footprint RESC0805X65N (Chip Resistor, 0805, 2-Leads, Body 2.0x1.3mm, IPC Medium Density)
pins: 1, 2

## 422K_1206
designator R?, comment value 422K  Tol: 1%  Text1: 1206  (hidden comment: 422K_R1206_1%)
Resistor Chip SMD; Manufacturer: Various; Part Number: 422K 1206 1%; Watt: 250mW; Package: RESC1206X71N; EDM-PN: *; Text2: *; Reutech PN: *; SAAB PN: *; DCE Part No: *
footprint RESC1206X71N (Chip Resistor, 1206, 2-Leads, Body 3.2x1.6mm, IPC Medium Density)
pins: 1, 2

## 430K_0402
designator R?, comment value 430K  Tol: 1%  Text1: 0402  (hidden comment: 430K_R0402_1%)
Resistor Chip SMD; Manufacturer: Various; Part Number: 430K 0402 1%; Watt: 63mW; Package: RESC0402X40N; EDM-PN: *; Text2: *; Reutech PN: *; SAAB PN: *; DCE Part No: *
footprint RESC0402X40N (Chip Resistor, 0402, 2-Leads, Body 1.1x0.5mm, IPC Medium Density)
pins: 1, 2

## 430K_0603
designator R?, comment value 430K  Tol: 1%  Text1: 0603  (hidden comment: 430K_R0603_1%)
Resistor Chip SMD; Manufacturer: Various; Part Number: 430K 0603 1%; Watt: 100mW; Package: RESC0603X60N; EDM-PN: *; Text2: *; Reutech PN: *; SAAB PN: *; DCE Part No: *
footprint RESC0603X60N (Chip Resistor, 0603, 2-Leads, Body 1.6x0.8mm, IPC Medium Density)
pins: 1, 2

## 430K_0805
designator R?, comment value 430K  Tol: 1%  Text1: 0805  (hidden comment: 430K_R0805_1%)
Resistor Chip SMD; Manufacturer: Various; Part Number: 430K 0805 1%; Watt: 125mW; Package: RESC0805X65N; EDM-PN: *; Text2: *; Reutech PN: *; SAAB PN: *; DCE Part No: *
footprint RESC0805X65N (Chip Resistor, 0805, 2-Leads, Body 2.0x1.3mm, IPC Medium Density)
pins: 1, 2

## 430K_1206
designator R?, comment value 430K  Tol: 1%  Text1: 1206  (hidden comment: 430K_R1206_1%)
Resistor Chip SMD; Manufacturer: Various; Part Number: 430K 1206 1%; Watt: 250mW; Package: RESC1206X71N; EDM-PN: *; Text2: *; Reutech PN: *; SAAB PN: *; DCE Part No: *
footprint RESC1206X71N (Chip Resistor, 1206, 2-Leads, Body 3.2x1.6mm, IPC Medium Density)
pins: 1, 2

## 430R_0402
designator R?, comment value 430R  Tol: 1%  Text1: 0402  (hidden comment: 430R_R0402_1%)
Resistor Chip SMD; Manufacturer: Various; Part Number: 430R 0402 1%; Watt: 63mW; Package: RESC0402X40N; EDM-PN: *; Text2: *; Reutech PN: *; SAAB PN: *; DCE Part No: *
footprint RESC0402X40N (Chip Resistor, 0402, 2-Leads, Body 1.1x0.5mm, IPC Medium Density)
pins: 1, 2

## 430R_0603
designator R?, comment value 430R  Tol: 1%  Text1: 0603  (hidden comment: 430R_R0603_1%)
Resistor Chip SMD; Manufacturer: Various; Part Number: 430R 0603 1%; Watt: 100mW; Package: RESC0603X60N; EDM-PN: *; Text2: *; Reutech PN: 5905-93-4300; SAAB PN: *; DCE Part No: *
footprint RESC0603X60N (Chip Resistor, 0603, 2-Leads, Body 1.6x0.8mm, IPC Medium Density)
pins: 1, 2

## 430R_0805
designator R?, comment value 430R  Tol: 1%  Text1: 0805  (hidden comment: 430R_R0805_1%)
Resistor Chip SMD; Manufacturer: Various; Part Number: 430R 0805 1%; Watt: 125mW; Package: RESC0805X65N; EDM-PN: *; Text2: *; Reutech PN: *; SAAB PN: *; DCE Part No: *
footprint RESC0805X65N (Chip Resistor, 0805, 2-Leads, Body 2.0x1.3mm, IPC Medium Density)
pins: 1, 2

## 432K_0402
designator R?, comment value 432K  Tol: 1%  Text1: 0402  (hidden comment: 432K_R0402_1%)
Resistor Chip SMD; Manufacturer: Various; Part Number: 432K 0402 1%; Watt: 63mW; Package: RESC0402X40N; EDM-PN: *; Text2: *; Reutech PN: *; SAAB PN: *; DCE Part No: *
footprint RESC0402X40N (Chip Resistor, 0402, 2-Leads, Body 1.1x0.5mm, IPC Medium Density)
pins: 1, 2

## 432K_0603
designator R?, comment value 432K  Tol: 1%  Text1: 0603  (hidden comment: 432K_R0603_1%)
Resistor Chip SMD; Manufacturer: Various; Part Number: 432K 0603 1%; Watt: 100mW; Package: RESC0603X60N; EDM-PN: *; Text2: *; Reutech PN: *; SAAB PN: *; DCE Part No: *
footprint RESC0603X60N (Chip Resistor, 0603, 2-Leads, Body 1.6x0.8mm, IPC Medium Density)
pins: 1, 2

## 432K_0805
designator R?, comment value 432K  Tol: 1%  Text1: 0805  (hidden comment: 432K_R0805_1%)
Resistor Chip SMD; Manufacturer: Various; Part Number: 432K 0805 1%; Watt: 125mW; Package: RESC0805X65N; EDM-PN: *; Text2: *; Reutech PN: *; SAAB PN: *; DCE Part No: *
footprint RESC0805X65N (Chip Resistor, 0805, 2-Leads, Body 2.0x1.3mm, IPC Medium Density)
pins: 1, 2

## 432K_1206
designator R?, comment value 432K  Tol: 1%  Text1: 1206  (hidden comment: 432K_R1206_1%)
Resistor Chip SMD; Manufacturer: Various; Part Number: 432K 1206 1%; Watt: 250mW; Package: RESC1206X71N; EDM-PN: *; Text2: *; Reutech PN: *; SAAB PN: *; DCE Part No: *
footprint RESC1206X71N (Chip Resistor, 1206, 2-Leads, Body 3.2x1.6mm, IPC Medium Density)
pins: 1, 2

## 442K_0402
designator R?, comment value 442K  Tol: 1%  Text1: 0402  (hidden comment: 442K_R0402_1%)
Resistor Chip SMD; Manufacturer: Various; Part Number: 442K 0402 1%; Watt: 63mW; Package: RESC0402X40N; EDM-PN: *; Text2: *; Reutech PN: *; SAAB PN: *; DCE Part No: *
footprint RESC0402X40N (Chip Resistor, 0402, 2-Leads, Body 1.1x0.5mm, IPC Medium Density)
pins: 1, 2

## 442K_0603
designator R?, comment value 442K  Tol: 1%  Text1: 0603  (hidden comment: 442K_R0603_1%)
Resistor Chip SMD; Manufacturer: Various; Part Number: 442K 0603 1%; Watt: 100mW; Package: RESC0603X60N; EDM-PN: *; Text2: *; Reutech PN: *; SAAB PN: *; DCE Part No: *
footprint RESC0603X60N (Chip Resistor, 0603, 2-Leads, Body 1.6x0.8mm, IPC Medium Density)
pins: 1, 2

## 442K_0805
designator R?, comment value 442K  Tol: 1%  Text1: 0805  (hidden comment: 442K_R0805_1%)
Resistor Chip SMD; Manufacturer: Various; Part Number: 442K 0805 1%; Watt: 125mW; Package: RESC0805X65N; EDM-PN: *; Text2: *; Reutech PN: *; SAAB PN: *; DCE Part No: *
footprint RESC0805X65N (Chip Resistor, 0805, 2-Leads, Body 2.0x1.3mm, IPC Medium Density)
pins: 1, 2

## 442K_1206
designator R?, comment value 442K  Tol: 1%  Text1: 1206  (hidden comment: 442K_R1206_1%)
Resistor Chip SMD; Manufacturer: Various; Part Number: 442K 1206 1%; Watt: 250mW; Package: RESC1206X71N; EDM-PN: *; Text2: *; Reutech PN: *; SAAB PN: *; DCE Part No: *
footprint RESC1206X71N (Chip Resistor, 1206, 2-Leads, Body 3.2x1.6mm, IPC Medium Density)
pins: 1, 2

## 448K_0402
designator R?, comment value 448K  Tol: 1%  Text1: 0402  (hidden comment: 448K_R0402_1%)
Resistor Chip SMD; Manufacturer: Various; Part Number: 448K 0402 1%; Watt: 63mW; Package: RESC0402X40N; EDM-PN: *; Text2: *; Reutech PN: *; SAAB PN: *; DCE Part No: *
footprint RESC0402X40N (Chip Resistor, 0402, 2-Leads, Body 1.1x0.5mm, IPC Medium Density)
pins: 1, 2

## 448K_0603
designator R?, comment value 448K  Tol: 1%  Text1: 0603  (hidden comment: 448K_R0603_1%)
Resistor Chip SMD; Manufacturer: Various; Part Number: 448K 0603 1%; Watt: 100mW; Package: RESC0603X60N; EDM-PN: *; Text2: *; Reutech PN: *; SAAB PN: *; DCE Part No: *
footprint RESC0603X60N (Chip Resistor, 0603, 2-Leads, Body 1.6x0.8mm, IPC Medium Density)
pins: 1, 2

## 448K_0805
designator R?, comment value 448K  Tol: 1%  Text1: 0805  (hidden comment: 448K_R0805_1%)
Resistor Chip SMD; Manufacturer: Various; Part Number: 448K 0805 1%; Watt: 125mW; Package: RESC0805X65N; EDM-PN: *; Text2: *; Reutech PN: *; SAAB PN: *; DCE Part No: *
footprint RESC0805X65N (Chip Resistor, 0805, 2-Leads, Body 2.0x1.3mm, IPC Medium Density)
pins: 1, 2

## 448K_1206
designator R?, comment value 448K  Tol: 1%  Text1: 1206  (hidden comment: 448K_R1206_1%)
Resistor Chip SMD; Manufacturer: Various; Part Number: 448K 1206 1%; Watt: 250mW; Package: RESC1206X71N; EDM-PN: *; Text2: *; Reutech PN: *; SAAB PN: *; DCE Part No: *
footprint RESC1206X71N (Chip Resistor, 1206, 2-Leads, Body 3.2x1.6mm, IPC Medium Density)
pins: 1, 2

## 453K_0402
designator R?, comment value 453K  Tol: 1%  Text1: 0402  (hidden comment: 453K_R0402_1%)
Resistor Chip SMD; Manufacturer: Various; Part Number: 453K 0402 1%; Watt: 63mW; Package: RESC0402X40N; EDM-PN: *; Text2: *; Reutech PN: *; SAAB PN: *; DCE Part No: *
footprint RESC0402X40N (Chip Resistor, 0402, 2-Leads, Body 1.1x0.5mm, IPC Medium Density)
pins: 1, 2

## 453K_0603
designator R?, comment value 453K  Tol: 1%  Text1: 0603  (hidden comment: 453K_R0603_1%)
Resistor Chip SMD; Manufacturer: Various; Part Number: 453K 0603 1%; Watt: 100mW; Package: RESC0603X60N; EDM-PN: *; Text2: *; Reutech PN: *; SAAB PN: *; DCE Part No: *
footprint RESC0603X60N (Chip Resistor, 0603, 2-Leads, Body 1.6x0.8mm, IPC Medium Density)
pins: 1, 2

## 453K_0805
designator R?, comment value 453K  Tol: 1%  Text1: 0805  (hidden comment: 453K_R0805_1%)
Resistor Chip SMD; Manufacturer: Various; Part Number: 453K 0805 1%; Watt: 125mW; Package: RESC0805X65N; EDM-PN: *; Text2: *; Reutech PN: *; SAAB PN: *; DCE Part No: *
footprint RESC0805X65N (Chip Resistor, 0805, 2-Leads, Body 2.0x1.3mm, IPC Medium Density)
pins: 1, 2

## 459K_0201
designator R?, comment value 459K  Tol: 1%  Text1: 0201  (hidden comment: 459K_R0201_1%)
Resistor Chip SMD; Manufacturer: Various; Part Number: 459K 0201 1%; Watt: 31mW; Package: RESC0201X33N; EDM-PN: *; Text2: *; Reutech PN: *; SAAB PN: *; DCE Part No: *
footprint RESC0201X33N (Chip Resistor, 0201, 2-Leads, Body 0.6x0.3mm, IPC Medium Density)
pins: 1, 2

## 459K_0402
designator R?, comment value 459K  Tol: 1%  Text1: 0402  (hidden comment: 459K_R0402_1%)
Resistor Chip SMD; Manufacturer: Various; Part Number: 459K 0402 1%; Watt: 63mW; Package: RESC0402X40N; EDM-PN: *; Text2: *; Reutech PN: *; SAAB PN: *; DCE Part No: *
footprint RESC0402X40N (Chip Resistor, 0402, 2-Leads, Body 1.1x0.5mm, IPC Medium Density)
pins: 1, 2

## 459K_0603
designator R?, comment value 459K  Tol: 1%  Text1: 0603  (hidden comment: 459K_R0603_1%)
Resistor Chip SMD; Manufacturer: Various; Part Number: 459K 0603 1%; Watt: 100mW; Package: RESC0603X60N; EDM-PN: *; Text2: *; Reutech PN: *; SAAB PN: *; DCE Part No: *
footprint RESC0603X60N (Chip Resistor, 0603, 2-Leads, Body 1.6x0.8mm, IPC Medium Density)
pins: 1, 2

## 459K_0805
designator R?, comment value 459K  Tol: 1%  Text1: 0805  (hidden comment: 459K_R0805_1%)
Resistor Chip SMD; Manufacturer: Various; Part Number: 459K 0805 1%; Watt: 125mW; Package: RESC0805X65N; EDM-PN: *; Text2: *; Reutech PN: *; SAAB PN: *; DCE Part No: *
footprint RESC0805X65N (Chip Resistor, 0805, 2-Leads, Body 2.0x1.3mm, IPC Medium Density)
pins: 1, 2

## 459K_1206
designator R?, comment value 459K  Tol: 1%  Text1: 1206  (hidden comment: 459K_R1206_1%)
Resistor Chip SMD; Manufacturer: Various; Part Number: 459K 1206 1%; Watt: 250mW; Package: RESC1206X71N; EDM-PN: *; Text2: *; Reutech PN: *; SAAB PN: *; DCE Part No: *
footprint RESC1206X71N (Chip Resistor, 1206, 2-Leads, Body 3.2x1.6mm, IPC Medium Density)
pins: 1, 2

## 459R_0201
designator R?, comment value 459R  Tol: 1%  Text1: 0201  (hidden comment: 459R_R0201_1%)
Resistor Chip SMD; Manufacturer: Various; Part Number: 459R 0201 1%; Watt: 31mW; Package: RESC0201X33N; EDM-PN: *; Text2: *; Reutech PN: *; SAAB PN: *; DCE Part No: *
footprint RESC0201X33N (Chip Resistor, 0201, 2-Leads, Body 0.6x0.3mm, IPC Medium Density)
pins: 1, 2

## 459R_0402
designator R?, comment value 459R  Tol: 1%  Text1: 0402  (hidden comment: 459R_R0402_1%)
Resistor Chip SMD; Manufacturer: Various; Part Number: 459R 0402 1%; Watt: 63mW; Package: RESC0402X40N; EDM-PN: *; Text2: *; Reutech PN: *; SAAB PN: *; DCE Part No: *
footprint RESC0402X40N (Chip Resistor, 0402, 2-Leads, Body 1.1x0.5mm, IPC Medium Density)
pins: 1, 2

## 459R_0603
designator R?, comment value 459R  Tol: 1%  Text1: 0603  (hidden comment: 459R_R0603_1%)
Resistor Chip SMD; Manufacturer: Various; Part Number: 459R 0603 1%; Watt: 100mW; Package: RESC0603X60N; EDM-PN: *; Text2: *; Reutech PN: *; SAAB PN: *; DCE Part No: *
footprint RESC0603X60N (Chip Resistor, 0603, 2-Leads, Body 1.6x0.8mm, IPC Medium Density)
pins: 1, 2

## 459R_0805
designator R?, comment value 459R  Tol: 1%  Text1: 0805  (hidden comment: 459R_R0805_1%)
Resistor Chip SMD; Manufacturer: Various; Part Number: 459R 0805 1%; Watt: 125mW; Package: RESC0805X65N; EDM-PN: *; Text2: *; Reutech PN: *; SAAB PN: *; DCE Part No: *
footprint RESC0805X65N (Chip Resistor, 0805, 2-Leads, Body 2.0x1.3mm, IPC Medium Density)
pins: 1, 2

## 459R_1206
designator R?, comment value 459R  Tol: 1%  Text1: 1206  (hidden comment: 459R_R1206_1%)
Resistor Chip SMD; Manufacturer: Various; Part Number: 459R 1206 1%; Watt: 250mW; Package: RESC1206X71N; EDM-PN: *; Text2: *; Reutech PN: *; SAAB PN: *; DCE Part No: *
footprint RESC1206X71N (Chip Resistor, 1206, 2-Leads, Body 3.2x1.6mm, IPC Medium Density)
pins: 1, 2

## 470K_0201
designator R?, comment value 470K  Tol: 1%  Text1: 0201  (hidden comment: 470K_R0201_1%)
Resistor Chip SMD; Manufacturer: Various; Part Number: 470K 0201 1%; Watt: 31mW; Package: RESC0201X33N; EDM-PN: *; Text2: *; Reutech PN: *; SAAB PN: *; DCE Part No: *
footprint RESC0201X33N (Chip Resistor, 0201, 2-Leads, Body 0.6x0.3mm, IPC Medium Density)
pins: 1, 2

## 470K_0402
designator R?, comment value 470K  Tol: 1%  Text1: 0402  (hidden comment: 470K_R0402_1%)
Resistor Chip SMD; Manufacturer: Various; Part Number: 470K 0402 1%; DCE Part No: 7400; Watt: 63mW; EDM-PN: RES659; SAAB PN: 1ACF00377AEA; Package: RESC0402X40N; Text2: *; Reutech PN: *
footprint RESC0402X40N (Chip Resistor, 0402, 2-Leads, Body 1.1x0.5mm, IPC Medium Density)
pins: 1, 2

## 470K_0402L
designator R?, comment value 470K  Tol: 1%  Text1: 0402  (hidden comment: 470K_R0402_1%)
Resistor Chip SMD; Manufacturer: Various; Part Number: 470K 0402 1%; DCE Part No: 7400; Watt: 63mW; EDM-PN: RES659; SAAB PN: 1ACF00377AEA; Package: RESC0402X40L; Text2: *; Reutech PN: *
footprint RESC0402X40L (Chip Resistor, 0402, 2-Leads, Body 1.1x0.5mm, IPC High Density)
pins: 1, 2

## 470K_0603
designator R?, comment value 470K  Tol: 1%  Text1: 0603  (hidden comment: 470K_R0603_1%)
Resistor Chip SMD; Manufacturer: Various; Part Number: 470K 0603 1%; Watt: 100mW; EDM-PN: RES493; Package: RESC0603X60N; Text2: *; Reutech PN: *; SAAB PN: *; DCE Part No: *
footprint RESC0603X60N (Chip Resistor, 0603, 2-Leads, Body 1.6x0.8mm, IPC Medium Density)
pins: 1, 2

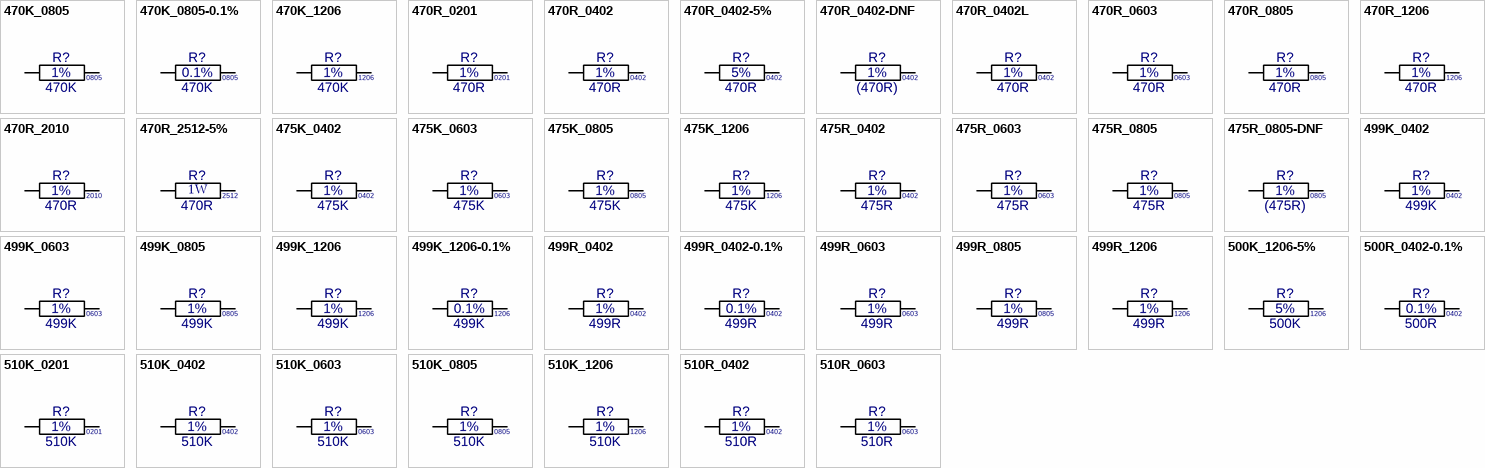
[diagram p53: symbols 470K_0805 to 510R_0603]

## 470K_0805
designator R?, comment value 470K  Tol: 1%  Text1: 0805  (hidden comment: 470K_R0805_1%)
Resistor Chip SMD; Manufacturer: Various; Part Number: 470K 0805 1%; Watt: 125mW; EDM-PN: RES20; SAAB PN: 1ACF00220AEA; Package: RESC0805X65N; Text2: *; Reutech PN: *; DCE Part No: *
footprint RESC0805X65N (Chip Resistor, 0805, 2-Leads, Body 2.0x1.3mm, IPC Medium Density)
pins: 1, 2

## 470K_0805-0.1%
designator R?, comment value 470K  Tol: 0.1%  Text1: 0805  (hidden comment: 470K_R0805_0.1%)
Resistor Chip SMD; Manufacturer: Various; Part Number: 470K 0805 0.1%; Watt: 125mW; Package: RESC0805X65N; EDM-PN: *; Text2: *; Reutech PN: *; SAAB PN: *; DCE Part No: *
footprint RESC0805X65N (Chip Resistor, 0805, 2-Leads, Body 2.0x1.3mm, IPC Medium Density)
pins: 1, 2

## 470K_1206
designator R?, comment value 470K  Tol: 1%  Text1: 1206  (hidden comment: 470K_R1206_1%)
Resistor Chip SMD; Manufacturer: Various; Part Number: 470K 1206 1%; Watt: 250mW; Package: RESC1206X71N; EDM-PN: *; Text2: *; Reutech PN: *; SAAB PN: *; DCE Part No: *
footprint RESC1206X71N (Chip Resistor, 1206, 2-Leads, Body 3.2x1.6mm, IPC Medium Density)
pins: 1, 2

## 470R_0201
designator R?, comment value 470R  Tol: 1%  Text1: 0201  (hidden comment: 470R_R0201_1%)
Resistor Chip SMD; Manufacturer: Various; Part Number: 470R 0201 1%; Watt: 31mW; Package: RESC0201X33N; EDM-PN: *; Text2: *; Reutech PN: *; SAAB PN: *; DCE Part No: *
footprint RESC0201X33N (Chip Resistor, 0201, 2-Leads, Body 0.6x0.3mm, IPC Medium Density)
pins: 1, 2

## 470R_0402
designator R?, comment value 470R  Tol: 1%  Text1: 0402  (hidden comment: 470R_R0402_1%)
Resistor Chip SMD; Manufacturer: Various; Part Number: 470R 0402 1%; DCE Part No: 7630; Watt: 63mW; EDM-PN: RES1124; Package: RESC0402X40N; Text2: *; Reutech PN: *; SAAB PN: *
footprint RESC0402X40N (Chip Resistor, 0402, 2-Leads, Body 1.1x0.5mm, IPC Medium Density)
pins: 1, 2

## 470R_0402-5%
designator R?, comment value 470R  Tol: 5%  Text1: 0402  (hidden comment: 470R_R0402_5%)
Resistor Chip SMD; Manufacturer: Various; Part Number: 470R 0402 5%; Watt: 63mW; Package: RESC0402X40N; EDM-PN: *; Text2: *; Reutech PN: *; SAAB PN: *; DCE Part No: *
footprint RESC0402X40N (Chip Resistor, 0402, 2-Leads, Body 1.1x0.5mm, IPC Medium Density)
pins: 1, 2

## 470R_0402-DNF
designator R?, comment value (470R)  Tol: 1%  Text1: 0402  (hidden comment: 470R_R0402_1%-DNF)
Resistor Chip SMD - Do not Fit; Manufacturer: Various; Part Number: DNF - 470R 0402 1%; Watt: 63mW; Package: RESC0402X40N; EDM-PN: *; Text2: *; Reutech PN: *; SAAB PN: *; DCE Part No: *
footprint RESC0402X40N (Chip Resistor, 0402, 2-Leads, Body 1.1x0.5mm, IPC Medium Density)
pins: 1, 2

## 470R_0402L
designator R?, comment value 470R  Tol: 1%  Text1: 0402  (hidden comment: 470R_R0402_1%)
Resistor Chip SMD; Manufacturer: Various; Part Number: 470R 0402 1%; DCE Part No: 7630; Watt: 63mW; EDM-PN: RES1124; Package: RESC0402X40L; Text2: *; Reutech PN: *; SAAB PN: *
footprint RESC0402X40L (Chip Resistor, 0402, 2-Leads, Body 1.1x0.5mm, IPC High Density)
pins: 1, 2

## 470R_0603
designator R?, comment value 470R  Tol: 1%  Text1: 0603  (hidden comment: 470R_R0603_1%)
Resistor Chip SMD; Manufacturer: Various; Part Number: 470R 0603 1%; Watt: 100mW; EDM-PN: RES127; Package: RESC0603X60N; Text2: *; Reutech PN: *; SAAB PN: *; DCE Part No: *
footprint RESC0603X60N (Chip Resistor, 0603, 2-Leads, Body 1.6x0.8mm, IPC Medium Density)
pins: 1, 2

## 470R_0805
designator R?, comment value 470R  Tol: 1%  Text1: 0805  (hidden comment: 470R_R0805_1%)
Resistor Chip SMD; Manufacturer: Various; Part Number: 470R 0805 1%; Watt: 125mW; EDM-PN: RES53; Package: RESC0805X65N; Text2: *; Reutech PN: *; SAAB PN: *; DCE Part No: *
footprint RESC0805X65N (Chip Resistor, 0805, 2-Leads, Body 2.0x1.3mm, IPC Medium Density)
pins: 1, 2

## 470R_1206
designator R?, comment value 470R  Tol: 1%  Text1: 1206  (hidden comment: 470R_R1206_1%)
Resistor Chip SMD; Manufacturer: Various; Part Number: 470R 1206 1%; Watt: 250mW; Package: RESC1206X71N; EDM-PN: *; Text2: *; Reutech PN: *; SAAB PN: *; DCE Part No: *
footprint RESC1206X71N (Chip Resistor, 1206, 2-Leads, Body 3.2x1.6mm, IPC Medium Density)
pins: 1, 2

## 470R_2010
designator R?, comment value 470R  Tol: 1%  Text1: 2010  (hidden comment: 470R_R2010_1%)
Resistor Chip SMD; Manufacturer: Various; Part Number: 470R 2010 1%; Watt: 500mW; Package: RESC2010X71N; EDM-PN: *; Text2: *; Reutech PN: *; SAAB PN: *; DCE Part No: *
footprint RESC2010X71N (Chip Resistor, 2010, 2-Leads, Body 5.0x2.5mm, IPC Medium Density)
pins: 1, 2

## 470R_2512-5%
designator R?, comment value 470R  Watt: 1W  Text1: 2512  (hidden comment: 470R_R2512_5%)
Resistor Chip SMD; Manufacturer: Various; Part Number: 470R 2512 5%; Tol: 5%; Package: RESC2512X71N; EDM-PN: *; Text2: *; Reutech PN: *; SAAB PN: *; DCE Part No: *
footprint RESC2512X71N (Chip Resistor, 2512, 2-Leads, Body 6.3x3.2mm, IPC Medium Density)
pins: 1, 2

## 475K_0402
designator R?, comment value 475K  Tol: 1%  Text1: 0402  (hidden comment: 475K_R0402_1%)
Resistor Chip SMD; Manufacturer: Various; Part Number: 475K 0402 1%; Watt: 63mW; Package: RESC0402X40N; EDM-PN: *; Text2: *; Reutech PN: *; SAAB PN: *; DCE Part No: *
footprint RESC0402X40N (Chip Resistor, 0402, 2-Leads, Body 1.1x0.5mm, IPC Medium Density)
pins: 1, 2

## 475K_0603
designator R?, comment value 475K  Tol: 1%  Text1: 0603  (hidden comment: 475K_R0603_1%)
Resistor Chip SMD; Manufacturer: Various; Part Number: 475K 0603 1%; Watt: 100mW; EDM-PN: RES1111; Package: RESC0603X60N; Text2: *; Reutech PN: *; SAAB PN: *; DCE Part No: *
footprint RESC0603X60N (Chip Resistor, 0603, 2-Leads, Body 1.6x0.8mm, IPC Medium Density)
pins: 1, 2

## 475K_0805
designator R?, comment value 475K  Tol: 1%  Text1: 0805  (hidden comment: 475K_R0805_1%)
Resistor Chip SMD; Manufacturer: Various; Part Number: 475K 0805 1%; Watt: 125mW; Package: RESC0805X65N; EDM-PN: *; Text2: *; Reutech PN: *; SAAB PN: *; DCE Part No: *
footprint RESC0805X65N (Chip Resistor, 0805, 2-Leads, Body 2.0x1.3mm, IPC Medium Density)
pins: 1, 2

## 475K_1206
designator R?, comment value 475K  Tol: 1%  Text1: 1206  (hidden comment: 475K_R1206_1%)
Resistor Chip SMD; Manufacturer: Various; Part Number: 475K 1206 1%; Watt: 250mW; Package: RESC1206X71N; EDM-PN: *; Text2: *; Reutech PN: *; SAAB PN: *; DCE Part No: *
footprint RESC1206X71N (Chip Resistor, 1206, 2-Leads, Body 3.2x1.6mm, IPC Medium Density)
pins: 1, 2

## 475R_0402
designator R?, comment value 475R  Tol: 1%  Text1: 0402  (hidden comment: 475R_R0402_1%)
Resistor Chip SMD; Manufacturer: Various; Part Number: 475R 0402 1%; Watt: 63mW; Package: RESC0402X40N; EDM-PN: *; Text2: *; Reutech PN: *; SAAB PN: *; DCE Part No: *
footprint RESC0402X40N (Chip Resistor, 0402, 2-Leads, Body 1.1x0.5mm, IPC Medium Density)
pins: 1, 2

## 475R_0603
designator R?, comment value 475R  Tol: 1%  Text1: 0603  (hidden comment: 475R_R0603_1%)
Resistor Chip SMD; Manufacturer: Various; Part Number: 475R 0603 1%; Watt: 100mW; Package: RESC0603X60N; EDM-PN: *; Text2: *; Reutech PN: *; SAAB PN: *; DCE Part No: *
footprint RESC0603X60N (Chip Resistor, 0603, 2-Leads, Body 1.6x0.8mm, IPC Medium Density)
pins: 1, 2